# Altium schematic symbol library led-smd-1206.SchLib: 7 symbols
Pins are listed as number, name and electrical type; pins without a type are passive.

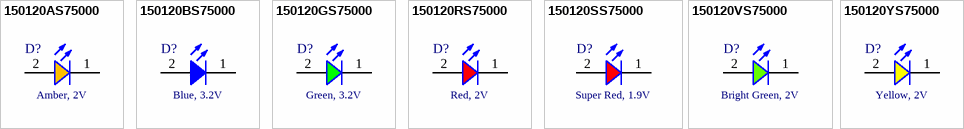
[diagram p0: symbols 150120AS75000 to 150120YS75000]

## 150120AS75000
designator D?, comment Amber, 2V
WL-SMCW SMT Mono-color Chip LED Waterclear, size 1206, Amber, 2V, 140deg; Part Number: 150120AS75000; Chip Technology: AlInGaP; Dominant Wavelength typ.: 605nm; Luminous Intensity typ.: 140mcd; Peak Wavelength typ.: 610nm; Viewing Angle: 140deg; ComponentLink1Description: Manufacturer; ComponentLink1URL: http://www.we-online.de; ComponentLink2URL: https://www.we-online.com/catalog/datasheet/150120AS75000.pdf; ComponentLink2Description: Datasheet; Forward Voltage typ.: 2V; Emitting Color: Amber; Mounting Technology: SMT; Operating Temperature: -40 to +85degC; Published Date: December 2019; Packaging: Tape and Reel; Size: 1206; Publisher: Wurth Elektronik
footprint WL-SMCW_1206 (SMD Mono-color Chip LED, body 3.2x1.6mm)
pins: 1 K, 2 A

## 150120BS75000
designator D?, comment Blue, 3.2V
WL-SMCW SMT Mono-color Chip LED Waterclear, size 1206, Blue, 3.2V, 140deg; Part Number: 150120BS75000; Chip Technology: InGaN; Dominant Wavelength typ.: 470nm; Luminous Intensity typ.: 145mcd; Peak Wavelength typ.: 465nm; Viewing Angle: 140deg; ComponentLink1Description: Manufacturer; ComponentLink1URL: http://www.we-online.de; ComponentLink2URL: https://www.we-online.com/catalog/datasheet/150120BS75000.pdf; ComponentLink2Description: Datasheet; Forward Voltage typ.: 3.2V; Emitting Color: Blue; Mounting Technology: SMT; Operating Temperature: -40 to +85degC; Published Date: December 2019; Packaging: Tape and Reel; Size: 1206; Publisher: Wurth Elektronik
footprint WL-SMCW_1206
pins: 1 K, 2 A

## 150120GS75000
designator D?, comment Green, 3.2V
WL-SMCW SMT Mono-color Chip LED Waterclear, size 1206, Green, 3.2V, 140deg; Part Number: 150120GS75000; Chip Technology: InGaN; Dominant Wavelength typ.: 525nm; Luminous Intensity typ.: 450mcd; Peak Wavelength typ.: 515nm; Viewing Angle: 140deg; ComponentLink1Description: Manufacturer; ComponentLink1URL: http://www.we-online.de; ComponentLink2URL: https://www.we-online.com/catalog/datasheet/150120GS75000.pdf; ComponentLink2Description: Datasheet; Forward Voltage typ.: 3.2V; Emitting Color: Green; Mounting Technology: SMT; Operating Temperature: -40 to +85degC; Published Date: December 2019; Packaging: Tape and Reel; Size: 1206; Publisher: Wurth Elektronik
footprint WL-SMCW_1206 (SMD Mono-color Chip LED, body 3.2x1.6mm)
pins: 1 K, 2 A

## 150120RS75000
designator D?, comment Red, 2V
WL-SMCW SMT Mono-color Chip LED Waterclear, size 1206, Red, 2V, 140deg; Part Number: 150120RS75000; Chip Technology: AlInGaP; Dominant Wavelength typ.: 625nm; Luminous Intensity typ.: 150mcd; Peak Wavelength typ.: 630nm; Viewing Angle: 140deg; ComponentLink1Description: Manufacturer; ComponentLink1URL: http://www.we-online.de; ComponentLink2URL: https://www.we-online.com/catalog/datasheet/150120RS75000.pdf; ComponentLink2Description: Datasheet; Forward Voltage typ.: 2V; Emitting Color: Red; Mounting Technology: SMT; Operating Temperature: -40 to +85degC; Published Date: December 2019; Packaging: Tape and Reel; Size: 1206; Publisher: Wurth Elektronik
footprint WL-SMCW_1206
pins: 1 K, 2 A

## 150120SS75000
designator D?, comment Super Red, 1.9V
WL-SMCW SMT Mono-color Chip LED Waterclear, size 1206, Super Red, 1.9V, 140deg; Part Number: 150120SS75000; Chip Technology: AlInGaP; Dominant Wavelength typ.: 630nm; Luminous Intensity typ.: 60mcd; Peak Wavelength typ.: 645nm; Viewing Angle: 140deg; ComponentLink1Description: Manufacturer; ComponentLink1URL: http://www.we-online.de; ComponentLink2URL: https://www.we-online.com/catalog/datasheet/150120SS75000.pdf; ComponentLink2Description: Datasheet; Forward Voltage typ.: 1.9V; Emitting Color: Super Red; Mounting Technology: SMT; Operating Temperature: -40 to +85degC; Published Date: December 2019; Packaging: Tape and Reel; Size: 1206; Publisher: Wurth Elektronik
footprint WL-SMCW_1206
pins: 1 K, 2 A

## 150120VS75000
designator D?, comment Bright Green, 2V
WL-SMCW SMT Mono-color Chip LED Waterclear, size 1206, Bright Green, 2V, 140deg; Part Number: 150120VS75000; Chip Technology: AlInGaP; Dominant Wavelength typ.: 570nm; Luminous Intensity typ.: 40mcd; Peak Wavelength typ.: 572nm; Viewing Angle: 140deg; ComponentLink1Description: Manufacturer; ComponentLink1URL: http://www.we-online.de; ComponentLink2URL: https://www.we-online.com/catalog/datasheet/150120VS75000.pdf; ComponentLink2Description: Datasheet; Forward Voltage typ.: 2V; Emitting Color: Bright Green; Mounting Technology: SMT; Operating Temperature: -40 to +85degC; Published Date: December 2019; Packaging: Tape and Reel; Size: 1206; Publisher: Wurth Elektronik
footprint WL-SMCW_1206 (SMD Mono-color Chip LED, body 3.2x1.6mm)
pins: 1 K, 2 A

## 150120YS75000
designator D?, comment Yellow, 2V
WL-SMCW SMT Mono-color Chip LED Waterclear, size 1206, Yellow, 2V, 140deg; Part Number: 150120YS75000; Chip Technology: AlInGaP; Dominant Wavelength typ.: 590nm; Luminous Intensity typ.: 120mcd; Peak Wavelength typ.: 595nm; Viewing Angle: 140deg; ComponentLink1Description: Manufacturer; ComponentLink1URL: http://www.we-online.de; ComponentLink2URL: https://www.we-online.com/catalog/datasheet/150120YS75000.pdf; ComponentLink2Description: Datasheet; Forward Voltage typ.: 2V; Emitting Color: Yellow; Mounting Technology: SMT; Operating Temperature: -40 to +85degC; Published Date: December 2019; Packaging: Tape and Reel; Size: 1206; Publisher: Wurth Elektronik
footprint WL-SMCW_1206
pins: 1 K, 2 A